# Altium schematic symbol library LimeMicroAltiumLib_schLib.SchLib: 162 symbols (part 4 of 7)
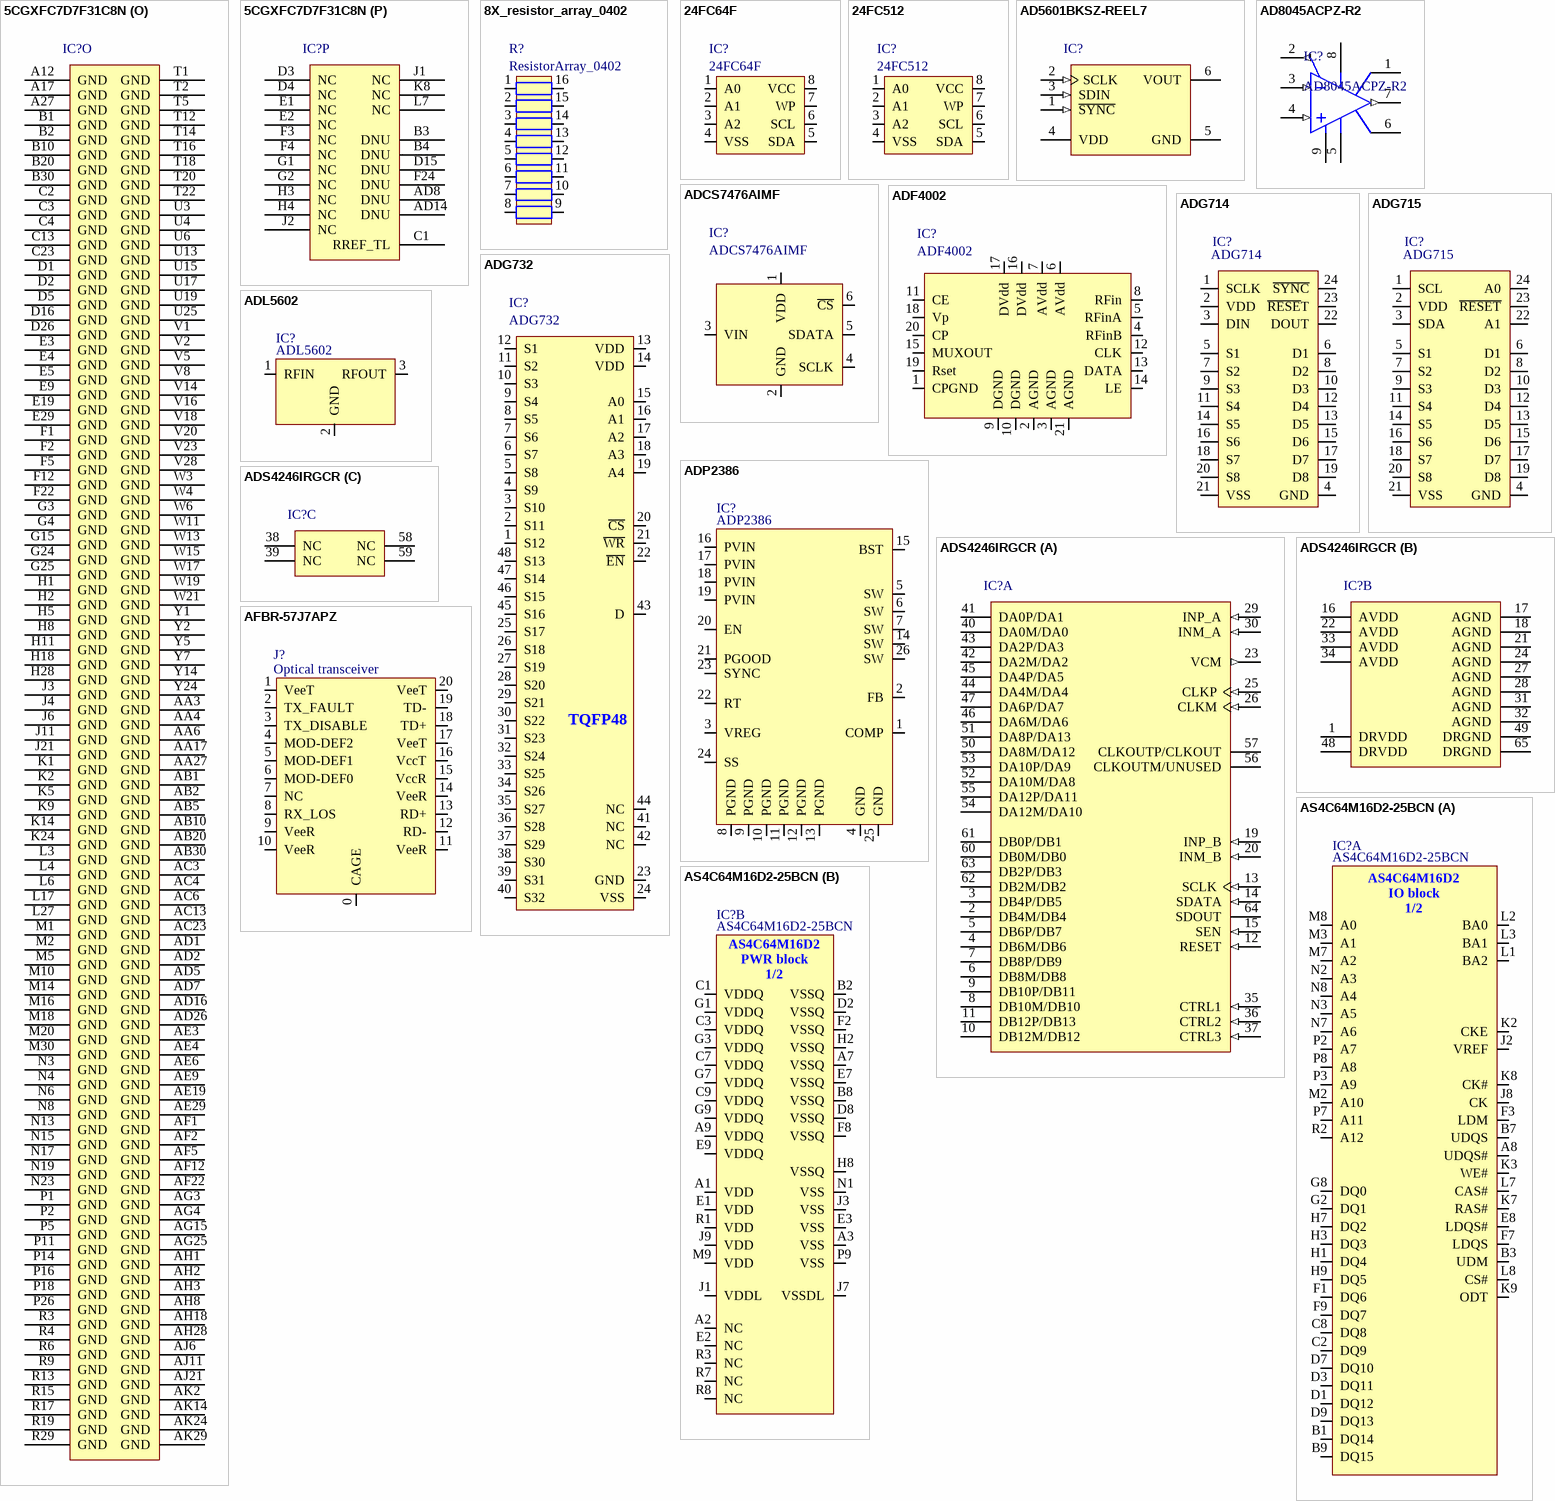
[diagram p34: symbols 5CGXFC7D7F31C8N to AS4C64M16D2-25BCN]

## 5CGXFC7D7F31C8N
designator IC?
Cyclone V GX Family FPGA, 1.07 to 1.13 V Supply, 480 I/O Pins, 7 PLLs, 896-Pin FBGA, Speed Grade 8, Commercial Grade, RoHS Compliant; Manufacturer: Altera; Device Group: 5CGXFC7; GPIO: 480; Logic Elements (LE) (K): 149.5; Speed Grade: 8; NexusDeviceID: 5CGXFC7D7F31C8N; DatasheetVersion: Rev. 3.4; PackageVersion: Rev. 2.0, 12/2012; PackageReference: FBGA896_A-200; PackageDescription: 896-Pin FineLine Ball-Grid Array (FBGA), Body 31 x 31 mm, Pitch 1 mm; Supplier 1: Digi-Key; Supplier Part Number 1: 544-2772-ND; Supplier 2: Mouser; Supplier Part Number 2: 989-5CGXFC7D7F31C8N; RoHS: RoHS Compliant; Subcategory: Cyclone V GX; Voltage Supply: 1.07 to 1.13 V; Mounting Technology: Surface Mount; Code_JEDEC: MS-034-AAN-1; PartNumber: 5CGXFC7D7F31C8N; ComponentLink1Description: Manufacturer URL; ComponentLink1URL: http://www.altera.com; ComponentLink2Description: Datasheet; ComponentLink2URL: http://www.altera.com/literature/hb/cyclone-v/cv_51002.pdf; ComponentLink3Description: Package Specification; ComponentLink3URL: http://www.altera.com/devicepackaging/04R00435-01.pdf; ComponentLink4Description: Device Handbook URL; ComponentLink4URL: http://www.altera.com/literature/hb/cyclone-v/cyclone5_handbook.pdf; ComponentLink5Description: Device Pin-Out URL; ComponentLink5URL: http://www.altera.com/literature/dp/cyclone-v/5CGXFC7.xls; ComponentLink6Description: Device Overview URL; ComponentLink6URL: http://www.altera.com/literature/hb/cyclone-v/cv_51001.pdf; ComponentLink7Description: Product URL; ComponentLink7URL: http://www.buyaltera.com/scripts/partsearch.dll?Detail&name=5CGXFC7D7F31C8N-ND
footprint ALTR-FBGA484_A-200 (BGA, 484-Balls, Body 23x23mm, Pitch 1mm)
part A pins: AA8 IO, (DIFFIO_TX_B13p, DIFFOUT_B13p, DQ2B) (io), AA9 IO, (DIFFIO_TX_B9p, DIFFOUT_B9p, DQ2B) (io), AA10 IO, DATA5, (DIFFIO_TX_B2n, DIFFOUT_B2n) (io), AA11 IO, DATA12, (DIFFIO_RX_B3p, DIFFOUT_B3p, DQS1B) (io), AB8 IO, (DIFFIO_TX_B13n, DIFFOUT_B13n, DQ2B) (io), AB9 IO, (DIFFIO_TX_B9n, DIFFOUT_B9n) (io), AC9 IO, DATA11, (DIFFIO_TX_B4p, DIFFOUT_B4p) (io), AD9 IO, DATA9, (DIFFIO_TX_B4n, DIFFOUT_B4n, DQ1B) (io), AF6 IO, PR_READY, (DIFFIO_TX_B8n, DIFFOUT_B8n, DQ1B) (io), AF7 IO, (DIFFIO_TX_B8p, DIFFOUT_B8p, DQ1B) (io), AF8 IO, (DIFFIO_TX_B12p, DIFFOUT_B12p) (io), AG6 IO, (DIFFIO_RX_B10p, DIFFOUT_B10p, DQ2B) (io), AG7 IO, (DIFFIO_TX_B16p, DIFFOUT_B16p, DQ2B) (io), AG8 IO, (DIFFIO_TX_B12n, DIFFOUT_B12n, DQ2B) (io), AH4 IO, (DIFFIO_RX_B14p, DIFFOUT_B14p, DQ2B) (io), AH5 IO, (DIFFIO_RX_B14n, DIFFOUT_B14n, DQ2B) (io), AH6 IO, (DIFFIO_RX_B10n, DIFFOUT_B10n, DQ2B) (io), AH7 IO, (DIFFIO_TX_B16n, DIFFOUT_B16n, DQ2B) (io), R10 IO, DATA14, (DIFFIO_RX_B5n, DIFFOUT_B5n, DQ1B) (io), T9 IO, (DIFFIO_RX_B11p, DIFFOUT_B11p, DQS2B) (io), T10 IO, (DIFFIO_RX_B15p, DIFFOUT_B15p) (io), T11 IO, CLKUSR, (DIFFIO_RX_B5p, DIFFOUT_B5p, DQ1B) (io), U8 IO, (DIFFIO_RX_B11n, DIFFOUT_B11n, DQSn2B) (io), U9 IO, (DIFFIO_RX_B15n, DIFFOUT_B15n) (io), U11 IO, DATA8, (DIFFIO_RX_B1p, DIFFOUT_B1p, DQ1B) (io), U12 IO, DATA6, (DIFFIO_RX_B1n, DIFFOUT_B1n, DQ1B) (io), V9 IO, DATA15, (DIFFIO_TX_B6p, DIFFOUT_B6p, DQ1B) (io), V10 IO, PR_DONE, (DIFFIO_RX_B7n, DIFFOUT_B7n) (io), V11 IO, PR_ERROR, (DIFFIO_RX_B7p, DIFFOUT_B7p) (io), W10 IO, DATA13, (DIFFIO_TX_B6n, DIFFOUT_B6n, DQ1B) (io), Y10 IO, DATA7, (DIFFIO_TX_B2p, DIFFOUT_B2p, DQ1B) (io), Y11 IO, DATA10, (DIFFIO_RX_B3n, DIFFOUT_B3n, DQSn1B) (io)
part B pins: AA13 IO, (DIFFIO_RX_B27n, DIFFOUT_B27n, DQSn4B, DQSn1B, B_CS#_1, B_CS#_1) (io), AA14 IO, (DIFFIO_RX_B35n, DIFFOUT_B35n, DQSn5B, _, B_CK#, B_CK#) (io), AA15 IO, CLK1n, (DIFFIO_RX_B39n, DIFFOUT_B39n) (io), AB12 IO, (DIFFIO_RX_B23p, DIFFOUT_B23p) (io), AB13 IO, (DIFFIO_RX_B23n, DIFFOUT_B23n) (io), AB14 IO, CLK0p, FPLL_BL_FBp, (DIFFIO_RX_B31p, DIFFOUT_B31p) (io), AC14 IO, CLK0n, FPLL_BL_FBn, (DIFFIO_RX_B31n, DIFFOUT_B31n) (io), AD12 IO, (DIFFIO_RX_B18p, DIFFOUT_B18p, DQ3B, DQ1B) (io), AD13 IO, (DIFFIO_RX_B18n, DIFFOUT_B18n, DQ3B, DQ1B) (io), AE10 IO, (DIFFIO_TX_B17p, DIFFOUT_B17p, DQ3B, DQ1B) (io), AE12 IO, (DIFFIO_RX_B22p, DIFFOUT_B22p, DQ3B, DQ1B) (io), AE13 IO, (DIFFIO_RX_B22n, DIFFOUT_B22n, DQ3B, DQ1B) (io), AF9 IO, (DIFFIO_TX_B32p, DIFFOUT_B32p, DQ4B, DQ1B, B_CAS#) (io), AF10 IO, (DIFFIO_TX_B17n, DIFFOUT_B17n) (io), AF11 IO, (DIFFIO_RX_B30p, DIFFOUT_B30p, DQ4B, DQ1B, B_A_8, B_CA_8) (io), AF13 IO, (DIFFIO_RX_B26p, DIFFOUT_B26p, DQ4B, DQ1B, B_A_14) (io), AG9 IO, (DIFFIO_TX_B32n, DIFFOUT_B32n, DQ4B, DQ1B, B_RAS#) (io), AG11 IO, (DIFFIO_RX_B30n, DIFFOUT_B30n, DQ4B, DQ1B, B_A_9, B_CA_9) (io), AG12 IO, (DIFFIO_RX_B26n, DIFFOUT_B26n, DQ4B, DQ1B, B_A_15) (io), AG13 IO, (DIFFIO_RX_B38p, DIFFOUT_B38p, DQ5B, _, B_A_4, B_CA_4) (io), AG14 IO, (DIFFIO_RX_B38n, DIFFOUT_B38n, DQ5B, _, B_A_5, B_CA_5) (io), AH9 IO, (DIFFIO_TX_B33p, DIFFOUT_B33p, DQ5B, _, B_BA_0) (io), AH10 IO, (DIFFIO_RX_B34p, DIFFOUT_B34p, DQ5B, _, B_BA_1) (io), AH11 IO, FPLL_BL_CLKOUT0, FPLL_BL_CLKOUTp, FPLL_BL_FB, (DIFFIO_TX_B37p, DIFFOUT_B37p, DQ5B, _, B_A_2, B_CA_2) (io), AH12 IO, FPLL_BL_CLKOUT1, FPLL_BL_CLKOUTn, (DIFFIO_TX_B37n, DIFFOUT_B37n, DQ5B, _, B_A_3, B_CA_3) (io), AJ1 IO, (DIFFIO_TX_B20p, DIFFOUT_B20p) (io), AJ2 IO, (DIFFIO_TX_B20n, DIFFOUT_B20n, DQ3B, DQ1B) (io), AJ3 IO, (DIFFIO_TX_B21p, DIFFOUT_B21p, DQ3B, DQ1B) (io), AJ4 IO, (DIFFIO_TX_B24p, DIFFOUT_B24p, DQ3B, DQ1B) (io), AJ5 IO, (DIFFIO_TX_B24n, DIFFOUT_B24n, DQ3B, DQ1B) (io), AJ7 IO, (DIFFIO_TX_B28p, DIFFOUT_B28p, _, _, B_A_12) (io), AJ8 IO, (DIFFIO_TX_B29p, DIFFOUT_B29p, DQ4B, DQ1B, B_A_10) (io), AJ9 IO, (DIFFIO_TX_B33n, DIFFOUT_B33n, _, _, GND, GND) (io), AJ10 IO, (DIFFIO_RX_B34n, DIFFOUT_B34n, DQ5B, _, B_BA_2) (io), AJ12 IO, (DIFFIO_TX_B40p, DIFFOUT_B40p, DQ5B, _, B_A_0, B_CA_0) (io), AK3 IO, (DIFFIO_TX_B21n, DIFFOUT_B21n, DQ3B, DQ1B) (io), AK5 IO, (DIFFIO_TX_B25p, DIFFOUT_B25p, DQ4B, DQ1B, B_WE#) (io), AK6 IO, (DIFFIO_TX_B25n, DIFFOUT_B25n, _, _, GND, GND) (io), AK7 IO, (DIFFIO_TX_B28n, DIFFOUT_B28n, DQ4B, DQ1B, B_A_13) (io), AK8 IO, (DIFFIO_TX_B29n, DIFFOUT_B29n, DQ4B, DQ1B, B_A_11) (io), AK10 IO, (DIFFIO_TX_B36p, DIFFOUT_B36p, _, _, B_A_6, B_CA_6) (io), AK11 IO, (DIFFIO_TX_B36n, DIFFOUT_B36n, DQ5B, _, B_A_7, B_CA_7) (io), AK12 IO, (DIFFIO_TX_B40n, DIFFOUT_B40n, DQ5B, _, B_A_1, B_CA_1) (io), V12 IO, (DIFFIO_RX_B19p, DIFFOUT_B19p, DQS3B, DQ1B) (io), W12 IO, (DIFFIO_RX_B19n, DIFFOUT_B19n, DQSn3B, DQ1B) (io), Y12 IO, (DIFFIO_RX_B27p, DIFFOUT_B27p, DQS4B, DQS1B, B_CS#_0, B_CS#_0) (io), Y13 IO, (DIFFIO_RX_B35p, DIFFOUT_B35p, DQS5B, _, B_CK, B_CK) (io), Y15 IO, CLK1p, (DIFFIO_RX_B39p, DIFFOUT_B39p) (io)
part C pins: AA16 IO, (DIFFIO_RX_B43n, DIFFOUT_B43n, DQSn6B, _, B_DQS#_0, B_DQS#_0) (io), AA18 IO, (DIFFIO_RX_B63p, DIFFOUT_B63p, _, _, GND, GND) (io), AA19 IO, (DIFFIO_RX_B63n, DIFFOUT_B63n, _, _, GND, GND) (io), AA20 IO, (DIFFIO_RX_B59n, DIFFOUT_B59n, DQSn8B, DQSn2B, B_DQS#_2, B_DQS#_2) (io), AA21 IO, (DIFFIO_RX_B71p, DIFFOUT_B71p, _, _, GND, GND) (io), AB16 IO, CLK2p, (DIFFIO_RX_B47p, DIFFOUT_B47p) (io), AB17 IO, CLK3p, (DIFFIO_RX_B55p, DIFFOUT_B55p) (io), AB18 IO, CLK3n, (DIFFIO_RX_B55n, DIFFOUT_B55n) (io), AB19 IO, (DIFFIO_RX_B67p, DIFFOUT_B67p, DQS9B, DQ3B, B_DQS_3, B_DQS_3) (io), AB21 IO, (DIFFIO_RX_B71n, DIFFOUT_B71n, _, _, GND, GND) (io), AB22 IO, (DIFFIO_RX_B79p, DIFFOUT_B79p, _, _, GND, GND) (io), AC15 IO, CLK2n, (DIFFIO_RX_B47n, DIFFOUT_B47n) (io), AC19 IO, (DIFFIO_RX_B67n, DIFFOUT_B67n, DQSn9B, DQ3B, B_DQS#_3, B_DQS#_3) (io), AC21 IO, (DIFFIO_RX_B75p, DIFFOUT_B75p, DQS10B, DQS3B, B_DQS_4, B_DQS_4) (io), AC22 IO, (DIFFIO_RX_B79n, DIFFOUT_B79n, _, _, GND, GND) (io), AD17 IO, (DIFFIO_RX_B46p, DIFFOUT_B46p, DQ6B, _, B_DQ_5, B_DQ_5) (io), AD18 IO, (DIFFIO_RX_B58p, DIFFOUT_B58p, DQ8B, DQ2B, B_DQ_17, B_DQ_17) (io), AD19 IO, (DIFFIO_RX_B70p, DIFFOUT_B70p, DQ9B, DQ3B, B_DQ_29, B_DQ_29) (io), AD20 IO, (DIFFIO_RX_B75n, DIFFOUT_B75n, DQSn10B, DQSn3B, B_DQS#_4, B_DQS#_4) (io), AE15 IO, (DIFFIO_TX_B48p, DIFFOUT_B48p, DQ6B, _, B_DM_0, B_DM_0) (io), AE16 IO, (DIFFIO_RX_B42p, DIFFOUT_B42p, DQ6B, _, B_DQ_1, B_DQ_1) (io), AE17 IO, (DIFFIO_RX_B46n, DIFFOUT_B46n, DQ6B, _, B_DQ_4, B_DQ_4) (io), AE18 IO, (DIFFIO_RX_B58n, DIFFOUT_B58n, DQ8B, DQ2B, B_DQ_16, B_DQ_16) (io), AE20 IO, (DIFFIO_RX_B70n, DIFFOUT_B70n, DQ9B, DQ3B, B_DQ_28, B_DQ_28) (io), AE22 IO, (DIFFIO_TX_B77p, DIFFOUT_B77p, DQ10B, DQ3B, B_DQ_38, B_DQ_38) (io), AF14 IO, (DIFFIO_TX_B48n, DIFFOUT_B48n, DQ6B, _, B_DQ_7, B_DQ_7) (io), AF15 IO, (DIFFIO_RX_B42n, DIFFOUT_B42n, DQ6B, _, B_DQ_0, B_DQ_0) (io), AF16 IO, (DIFFIO_RX_B54p, DIFFOUT_B54p, DQ7B, DQ2B, B_DQ_13, B_DQ_13) (io), AF18 IO, (DIFFIO_RX_B62p, DIFFOUT_B62p, DQ8B, DQ2B, B_DQ_21, B_DQ_21) (io), AF19 IO, (DIFFIO_RX_B62n, DIFFOUT_B62n, DQ8B, DQ2B, B_DQ_20, B_DQ_20) (io), AF20 IO, (DIFFIO_RX_B74p, DIFFOUT_B74p, DQ10B, DQ3B, B_DQ_33, B_DQ_33) (io), AF21 IO, (DIFFIO_RX_B78p, DIFFOUT_B78p, DQ10B, DQ3B, B_DQ_37, B_DQ_37) (io), AF23 IO, (DIFFIO_TX_B77n, DIFFOUT_B77n, DQ10B, DQ3B, GND, GND) (io), AG16 IO, (DIFFIO_RX_B54n, DIFFOUT_B54n, DQ7B, DQ2B, B_DQ_12, B_DQ_12) (io), AG17 IO, (DIFFIO_TX_B49p, DIFFOUT_B49p, DQ7B, DQ2B, B_DQ_10, B_DQ_10) (io), AG18 IO, (DIFFIO_RX_B66p, DIFFOUT_B66p, DQ9B, DQ3B, B_DQ_25, B_DQ_25) (io), AG19 IO, (DIFFIO_RX_B66n, DIFFOUT_B66n, DQ9B, DQ3B, B_DQ_24, B_DQ_24) (io), AG21 IO, (DIFFIO_RX_B74n, DIFFOUT_B74n, DQ10B, DQ3B, B_DQ_32, B_DQ_32) (io), AG22 IO, (DIFFIO_RX_B78n, DIFFOUT_B78n, DQ10B, DQ3B, B_DQ_36, B_DQ_36) (io), AG23 IO, (DIFFIO_TX_B80p, DIFFOUT_B80p, DQ10B, DQ3B, B_DM_4, B_DM_4) (io), AG24 IO, (DIFFIO_TX_B69p, DIFFOUT_B69p, DQ9B, DQ3B, B_DQ_30, B_DQ_30) (io), AG26 IO, (DIFFIO_TX_B76p, DIFFOUT_B76p, _, _, GND, GND) (io), AH14 IO, (DIFFIO_TX_B44p, DIFFOUT_B44p, _, _, B_ODT_0, B_ODT_0) (io), AH15 IO, (DIFFIO_TX_B44n, DIFFOUT_B44n, DQ6B, _, B_DQ_3, B_DQ_3) (io), AH17 IO, (DIFFIO_TX_B49n, DIFFOUT_B49n, _, _, GND, GND) (io), AH19 IO, (DIFFIO_TX_B56p, DIFFOUT_B56p, DQ7B, DQ2B, B_DM_1, B_DM_1) (io), AH20 IO, (DIFFIO_TX_B56n, DIFFOUT_B56n, DQ7B, DQ2B, B_DQ_15, B_DQ_15) (io), AH21 IO, (DIFFIO_TX_B61p, DIFFOUT_B61p, DQ8B, DQ2B, B_DQ_22, B_DQ_22) (io), AH22 IO, (DIFFIO_TX_B80n, DIFFOUT_B80n, DQ10B, DQ3B, B_DQ_39, B_DQ_39) (io), AH24 IO, (DIFFIO_TX_B65p, DIFFOUT_B65p, DQ9B, DQ3B, B_DQ_26, B_DQ_26) (io), AH25 IO, (DIFFIO_TX_B69n, DIFFOUT_B69n, DQ9B, DQ3B, GND, GND) (io), AH26 IO, (DIFFIO_TX_B76n, DIFFOUT_B76n, DQ10B, DQ3B, B_DQ_35, B_DQ_35) (io), AJ14 IO, (DIFFIO_TX_B41p, DIFFOUT_B41p, DQ6B, _, B_DQ_2, B_DQ_2) (io), AJ15 IO, (DIFFIO_TX_B45p, DIFFOUT_B45p, DQ6B, _, B_DQ_6, B_DQ_6) (io), AJ17 IO, (DIFFIO_TX_B52p, DIFFOUT_B52p, _, _, B_CKE_1, B_CKE_1) (io), AJ18 IO, (DIFFIO_TX_B52n, DIFFOUT_B52n, DQ7B, DQ2B, B_DQ_11, B_DQ_11) (io), AJ19 IO, (DIFFIO_TX_B53p, DIFFOUT_B53p, DQ7B, DQ2B, B_DQ_14, B_DQ_14) (io), AJ20 IO, (DIFFIO_TX_B57p, DIFFOUT_B57p, DQ8B, DQ2B, B_DQ_18, B_DQ_18) (io), AJ22 IO, (DIFFIO_TX_B61n, DIFFOUT_B61n, DQ8B, DQ2B, GND, GND) (io), AJ23 IO, (DIFFIO_TX_B64p, DIFFOUT_B64p, DQ8B, DQ2B, B_DM_2, B_DM_2) (io), AJ24 IO, (DIFFIO_TX_B65n, DIFFOUT_B65n, _, _, GND, GND) (io), AJ25 IO, (DIFFIO_TX_B68p, DIFFOUT_B68p, _, _, GND, GND) (io), AJ27 IO, (DIFFIO_TX_B72p, DIFFOUT_B72p, DQ9B, DQ3B, B_DM_3, B_DM_3) (io), AK13 IO, RZQ_0, (DIFFIO_TX_B41n, DIFFOUT_B41n) (io), AK15 IO, (DIFFIO_TX_B45n, DIFFOUT_B45n, DQ6B, _, B_ODT_1, B_ODT_1) (io), AK16 IO, (DIFFIO_RX_B50p, DIFFOUT_B50p, DQ7B, DQ2B, B_DQ_9, B_DQ_9) (io), AK17 IO, (DIFFIO_RX_B50n, DIFFOUT_B50n, DQ7B, DQ2B, B_DQ_8, B_DQ_8) (io), AK18 IO, (DIFFIO_TX_B53n, DIFFOUT_B53n, DQ7B, DQ2B, B_CKE_0, B_CKE_0) (io), AK20 IO, (DIFFIO_TX_B57n, DIFFOUT_B57n, _, _, GND, GND) (io), AK21 IO, (DIFFIO_TX_B60p, DIFFOUT_B60p, _, _, B_RESET#, B_RESET#) (io), AK22 IO, (DIFFIO_TX_B60n, DIFFOUT_B60n, DQ8B, DQ2B, B_DQ_19, B_DQ_19) (io), AK23 IO, (DIFFIO_TX_B64n, DIFFOUT_B64n, DQ8B, DQ2B, B_DQ_23, B_DQ_23) (io), AK25 IO, (DIFFIO_TX_B68n, DIFFOUT_B68n, DQ9B, DQ3B, B_DQ_27, B_DQ_27) (io), AK26 IO, (DIFFIO_TX_B72n, DIFFOUT_B72n, DQ9B, DQ3B, B_DQ_31, B_DQ_31) (io), AK27 IO, (DIFFIO_TX_B73p, DIFFOUT_B73p, DQ10B, DQ3B, B_DQ_34, B_DQ_34) (io), AK28 IO, (DIFFIO_TX_B73n, DIFFOUT_B73n, _, _, GND, GND) (io), Y16 IO, (DIFFIO_RX_B43p, DIFFOUT_B43p, DQS6B, _, B_DQS_0, B_DQS_0) (io), Y17 IO, (DIFFIO_RX_B51p, DIFFOUT_B51p, DQS7B, DQ2B, B_DQS_1, B_DQS_1) (io), Y18 IO, (DIFFIO_RX_B51n, DIFFOUT_B51n, DQSn7B, DQ2B, B_DQS#_1, B_DQS#_1) (io), Y20 IO, (DIFFIO_RX_B59p, DIFFOUT_B59p, DQS8B, DQS2B, B_DQS_2, B_DQS_2) (io)
part D pins: AA23 IO, (DIFFIO_RX_R8n, DIFFOUT_R8n, DQ1R) (io), AA24 IO, (DIFFIO_RX_R9p, DIFFOUT_R9p) (io), AA25 IO, (DIFFIO_RX_R9n, DIFFOUT_R9n) (io), AA26 IO, DEV_CLRn, (DIFFIO_TX_R5n, DIFFOUT_R5n, DQ1R) (io), AB26 IO, DEV_OE, (DIFFIO_TX_R5p, DIFFOUT_R5p) (io), AC24 IO, PR_REQUEST, (DIFFIO_TX_R1n, DIFFOUT_R1n, DQ1R) (io), AC26 IO, (DIFFIO_TX_R7p, DIFFOUT_R7p, DQ1R) (io), AC27 IO, (DIFFIO_TX_R7n, DIFFOUT_R7n) (io), AD23 IO, RZQ_1, (DIFFIO_TX_R1p, DIFFOUT_R1p, DQ1R) (io), AD24 IO, nCEO, (DIFFIO_TX_R3p, DIFFOUT_R3p, DQ1R) (io), AD25 IO, CvP_CONFDONE, (DIFFIO_TX_R3n, DIFFOUT_R3n, DQ1R) (io), AD27 IO, (DIFFIO_RX_R11n, DIFFOUT_R11n, DQ2R) (io), AE23 IO, (DIFFIO_TX_R10p, DIFFOUT_R10p, DQ2R) (io), AE25 IO, (DIFFIO_TX_R12p, DIFFOUT_R12p, DQ2R) (io), AE26 IO, (DIFFIO_TX_R12n, DIFFOUT_R12n, DQ2R) (io), AE27 IO, (DIFFIO_RX_R11p, DIFFOUT_R11p, DQ2R) (io), AF24 IO, (DIFFIO_TX_R10n, DIFFOUT_R10n, DQ2R) (io), AF25 IO, (DIFFIO_TX_R14p, DIFFOUT_R14p) (io), AF26 IO, (DIFFIO_TX_R14n, DIFFOUT_R14n, DQ2R) (io), AG27 IO, (DIFFIO_TX_R16n, DIFFOUT_R16n) (io), AH27 IO, (DIFFIO_TX_R16p, DIFFOUT_R16p, DQ2R) (io), V21 IO, (DIFFIO_RX_R13p, DIFFOUT_R13p, DQS2R) (io), V22 IO, (DIFFIO_RX_R13n, DIFFOUT_R13n, DQSn2R) (io), W22 IO, INIT_DONE, (DIFFIO_RX_R2p, DIFFOUT_R2p) (io), W24 IO, nPERSTL1, (DIFFIO_RX_R6n, DIFFOUT_R6n, DQSn1R) (io), W27 IO, (DIFFIO_RX_R15n, DIFFOUT_R15n, DQ2R) (io), Y21 IO, CRC_ERROR, (DIFFIO_RX_R2n, DIFFOUT_R2n) (io), Y22 IO, (DIFFIO_RX_R8p, DIFFOUT_R8p, DQ1R) (io), Y23 IO, nPERSTL0, (DIFFIO_RX_R6p, DIFFOUT_R6p, DQS1R) (io), Y25 IO, (DIFFIO_RX_R4p, DIFFOUT_R4p, DQ1R) (io), Y26 IO, (DIFFIO_RX_R4n, DIFFOUT_R4n, DQ1R) (io), Y27 IO, (DIFFIO_RX_R15p, DIFFOUT_R15p, DQ2R) (io)
part E pins: AA28 IO, (DIFFIO_RX_R19p, DIFFOUT_R19p, DQ3R, DQ1R) (io), AA29 IO, (DIFFIO_RX_R31p, DIFFOUT_R31p, DQ4R, DQ1R) (io), AA30 IO, (DIFFIO_RX_R31n, DIFFOUT_R31n, DQ4R, DQ1R) (io), AB27 IO, (DIFFIO_TX_R32p, DIFFOUT_R32p, DQ4R, DQ1R) (io), AB28 IO, (DIFFIO_TX_R32n, DIFFOUT_R32n) (io), AB29 IO, (DIFFIO_TX_R34p, DIFFOUT_R34p, DQ5R) (io), AC29 IO, (DIFFIO_TX_R30n, DIFFOUT_R30n, DQ4R, DQ1R) (io), AC30 IO, (DIFFIO_TX_R34n, DIFFOUT_R34n, DQ5R) (io), AD28 IO, (DIFFIO_TX_R28n, DIFFOUT_R28n, DQ4R, DQ1R) (io), AD29 IO, (DIFFIO_TX_R30p, DIFFOUT_R30p) (io), AD30 IO, (DIFFIO_RX_R23n, DIFFOUT_R23n, DQ3R, DQ1R) (io), AE28 IO, (DIFFIO_TX_R28p, DIFFOUT_R28p, DQ4R, DQ1R) (io), AE30 IO, (DIFFIO_RX_R23p, DIFFOUT_R23p, DQ3R, DQ1R) (io), AF28 IO, (DIFFIO_TX_R24n, DIFFOUT_R24n) (io), AF29 IO, (DIFFIO_TX_R26p, DIFFOUT_R26p, DQ4R, DQ1R) (io), AF30 IO, (DIFFIO_TX_R26n, DIFFOUT_R26n, DQ4R, DQ1R) (io), AG28 IO, (DIFFIO_TX_R24p, DIFFOUT_R24p, DQ3R, DQ1R) (io), AG29 IO, (DIFFIO_TX_R20n, DIFFOUT_R20n, DQ3R, DQ1R) (io), AH29 IO, (DIFFIO_TX_R20p, DIFFOUT_R20p, DQ3R, DQ1R) (io), AH30 IO, (DIFFIO_TX_R22n, DIFFOUT_R22n, DQ3R, DQ1R) (io), AJ28 IO, (DIFFIO_TX_R18p, DIFFOUT_R18p, DQ3R, DQ1R) (io), AJ29 IO, (DIFFIO_TX_R18n, DIFFOUT_R18n, DQ3R, DQ1R) (io), AJ30 IO, (DIFFIO_TX_R22p, DIFFOUT_R22p) (io), R26 IO, (DIFFIO_RX_R37n, DIFFOUT_R37n, DQSn5R) (io), R30 IO, (DIFFIO_RX_R39n, DIFFOUT_R39n, DQ5R) (io), T24 IO, CLK6n, (DIFFIO_RX_R33n, DIFFOUT_R33n) (io), T25 IO, (DIFFIO_RX_R37p, DIFFOUT_R37p, DQS5R) (io), T28 IO, (DIFFIO_RX_R35p, DIFFOUT_R35p, DQ5R) (io), T29 IO, (DIFFIO_RX_R35n, DIFFOUT_R35n, DQ5R) (io), T30 IO, (DIFFIO_RX_R39p, DIFFOUT_R39p, DQ5R) (io), U21 IO, CLK7p, FPLL_BR_FBp, (DIFFIO_RX_R25p, DIFFOUT_R25p) (io), U22 IO, CLK7n, FPLL_BR_FBn, (DIFFIO_RX_R25n, DIFFOUT_R25n) (io), U23 IO, CLK6p, (DIFFIO_RX_R33p, DIFFOUT_R33p) (io), U26 IO, (DIFFIO_RX_R21n, DIFFOUT_R21n, DQSn3R, DQSn1R) (io), U27 IO, (DIFFIO_RX_R29p, DIFFOUT_R29p, DQS4R, DQ1R) (io), U28 IO, (DIFFIO_RX_R29n, DIFFOUT_R29n, DQSn4R, DQ1R) (io), U29 IO, (DIFFIO_TX_R40p, DIFFOUT_R40p, DQ5R) (io), V24 IO, (DIFFIO_RX_R17p, DIFFOUT_R17p) (io), V25 IO, (DIFFIO_RX_R17n, DIFFOUT_R17n) (io), V26 IO, (DIFFIO_RX_R21p, DIFFOUT_R21p, DQS3R, DQS1R) (io), V27 IO, (DIFFIO_RX_R27p, DIFFOUT_R27p, DQ4R, DQ1R) (io), V29 IO, (DIFFIO_TX_R38p, DIFFOUT_R38p) (io), V30 IO, (DIFFIO_TX_R40n, DIFFOUT_R40n) (io), W28 IO, (DIFFIO_RX_R27n, DIFFOUT_R27n, DQ4R, DQ1R) (io), W29 IO, (DIFFIO_TX_R38n, DIFFOUT_R38n, DQ5R) (io), W30 IO, FPLL_BR_CLKOUT1, FPLL_BR_CLKOUTn, (DIFFIO_TX_R36n, DIFFOUT_R36n, DQ5R) (io), Y28 IO, (DIFFIO_RX_R19n, DIFFOUT_R19n, DQ3R, DQ1R) (io), Y30 IO, FPLL_BR_CLKOUT0, FPLL_BR_CLKOUTp, FPLL_BR_FB, (DIFFIO_TX_R36p, DIFFOUT_R36p, DQ5R) (io)
part F pins: A29 IO, (DIFFIO_TX_R74n, DIFFOUT_R74n, DQ10R, DQ3R) (io), B28 IO, (DIFFIO_TX_R74p, DIFFOUT_R74p, DQ10R, DQ3R) (io), B29 IO, (DIFFIO_TX_R72n, DIFFOUT_R72n) (io), C29 IO, (DIFFIO_TX_R72p, DIFFOUT_R72p, DQ9R, DQ3R) (io), C30 IO, (DIFFIO_TX_R68n, DIFFOUT_R68n, DQ9R, DQ3R) (io), D27 IO, (DIFFIO_TX_R78n, DIFFOUT_R78n, DQ10R, DQ3R) (io), D28 IO, (DIFFIO_TX_R76p, DIFFOUT_R76p, DQ10R, DQ3R) (io), D29 IO, (DIFFIO_TX_R76n, DIFFOUT_R76n, DQ10R, DQ3R) (io), D30 IO, (DIFFIO_TX_R68p, DIFFOUT_R68p, DQ9R, DQ3R) (io), E27 IO, (DIFFIO_TX_R78p, DIFFOUT_R78p) (io), E28 IO, (DIFFIO_TX_R70n, DIFFOUT_R70n, DQ9R, DQ3R) (io), E30 IO, (DIFFIO_TX_R64n, DIFFOUT_R64n) (io), F25 IO, (DIFFIO_RX_R63p, DIFFOUT_R63p, DQ8R, DQ2R) (io), F26 IO, (DIFFIO_RX_R63n, DIFFOUT_R63n, DQ8R, DQ2R) (io), F28 IO, (DIFFIO_TX_R70p, DIFFOUT_R70p) (io), F29 IO, (DIFFIO_TX_R66n, DIFFOUT_R66n, DQ9R, DQ3R) (io), F30 IO, (DIFFIO_TX_R64p, DIFFOUT_R64p, DQ8R, DQ2R) (io), G26 IO, (DIFFIO_TX_R62n, DIFFOUT_R62n, DQ8R, DQ2R) (io), G27 IO, (DIFFIO_TX_R56p, DIFFOUT_R56p, DQ7R, DQ2R) (io), G28 IO, (DIFFIO_TX_R56n, DIFFOUT_R56n) (io), G29 IO, (DIFFIO_TX_R66p, DIFFOUT_R66p, DQ9R, DQ3R) (io), H24 IO, (DIFFIO_TX_R80p, DIFFOUT_R80p, DQ10R, DQ3R) (io), H25 IO, (DIFFIO_RX_R75p, DIFFOUT_R75p, DQ10R, DQ3R) (io), H26 IO, (DIFFIO_RX_R75n, DIFFOUT_R75n, DQ10R, DQ3R) (io), H27 IO, (DIFFIO_TX_R62p, DIFFOUT_R62p) (io), H29 IO, (DIFFIO_TX_R60p, DIFFOUT_R60p, DQ8R, DQ2R) (io), H30 IO, (DIFFIO_TX_R60n, DIFFOUT_R60n, DQ8R, DQ2R) (io), J22 IO, (DIFFIO_RX_R79p, DIFFOUT_R79p, DQ10R, DQ3R) (io), J23 IO, (DIFFIO_RX_R79n, DIFFOUT_R79n, DQ10R, DQ3R) (io), J25 IO, (DIFFIO_TX_R80n, DIFFOUT_R80n) (io), J27 IO, (DIFFIO_RX_R59n, DIFFOUT_R59n, DQ8R, DQ2R) (io), J28 IO, (DIFFIO_TX_R58p, DIFFOUT_R58p, DQ8R, DQ2R) (io), J29 IO, (DIFFIO_TX_R58n, DIFFOUT_R58n, DQ8R, DQ2R) (io), J30 IO, (DIFFIO_TX_R54n, DIFFOUT_R54n, DQ7R, DQ2R) (io), K21 IO, (DIFFIO_RX_R71p, DIFFOUT_R71p, DQ9R, DQ3R) (io), K22 IO, (DIFFIO_RX_R71n, DIFFOUT_R71n, DQ9R, DQ3R) (io), K25 IO, (DIFFIO_TX_R50p, DIFFOUT_R50p, DQ7R, DQ2R) (io), K26 IO, (DIFFIO_TX_R50n, DIFFOUT_R50n, DQ7R, DQ2R) (io), K27 IO, (DIFFIO_RX_R59p, DIFFOUT_R59p, DQ8R, DQ2R) (io), K28 IO, (DIFFIO_TX_R46n, DIFFOUT_R46n, DQ6R) (io), K30 IO, (DIFFIO_TX_R54p, DIFFOUT_R54p) (io), L21 IO, (DIFFIO_RX_R73n, DIFFOUT_R73n) (io), L23 IO, (DIFFIO_RX_R67p, DIFFOUT_R67p, DQ9R, DQ3R) (io), L24 IO, (DIFFIO_RX_R67n, DIFFOUT_R67n, DQ9R, DQ3R) (io), L25 IO, (DIFFIO_RX_R55p, DIFFOUT_R55p, DQ7R, DQ2R) (io), L26 IO, (DIFFIO_RX_R55n, DIFFOUT_R55n, DQ7R, DQ2R) (io), L28 IO, (DIFFIO_TX_R46p, DIFFOUT_R46p) (io), L29 IO, (DIFFIO_TX_R52p, DIFFOUT_R52p, DQ7R, DQ2R) (io), L30 IO, (DIFFIO_TX_R52n, DIFFOUT_R52n, DQ7R, DQ2R) (io), M21 IO, (DIFFIO_RX_R73p, DIFFOUT_R73p) (io), M22 IO, (DIFFIO_RX_R69n, DIFFOUT_R69n, DQSn9R, DQSn3R) (io), M23 IO, (DIFFIO_RX_R61n, DIFFOUT_R61n, DQSn8R, DQ2R) (io), M27 IO, (DIFFIO_TX_R48p, DIFFOUT_R48p, DQ6R) (io), M28 IO, (DIFFIO_TX_R48n, DIFFOUT_R48n) (io), M29 IO, FPLL_TR_CLKOUT0, FPLL_TR_CLKOUTp, FPLL_TR_FB, (DIFFIO_TX_R44p, DIFFOUT_R44p, DQ6R) (io), N20 IO, (DIFFIO_RX_R77n, DIFFOUT_R77n, DQSn10R, DQ3R) (io), N21 IO, (DIFFIO_RX_R69p, DIFFOUT_R69p, DQS9R, DQS3R) (io), N22 IO, (DIFFIO_RX_R61p, DIFFOUT_R61p, DQS8R, DQ2R) (io), N24 IO, (DIFFIO_RX_R53p, DIFFOUT_R53p, DQS7R, DQS2R) (io), N25 IO, (DIFFIO_RX_R53n, DIFFOUT_R53n, DQSn7R, DQSn2R) (io), N26 IO, (DIFFIO_RX_R51p, DIFFOUT_R51p, DQ7R, DQ2R) (io), N27 IO, (DIFFIO_RX_R51n, DIFFOUT_R51n, DQ7R, DQ2R) (io), N29 IO, (DIFFIO_TX_R42n, DIFFOUT_R42n, DQ6R) (io), N30 IO, FPLL_TR_CLKOUT1, FPLL_TR_CLKOUTn, (DIFFIO_TX_R44n, DIFFOUT_R44n, DQ6R) (io), P20 IO, (DIFFIO_RX_R77p, DIFFOUT_R77p, DQS10R, DQ3R) (io), P22 IO, CLK4p, FPLL_TR_FBp, (DIFFIO_RX_R49p, DIFFOUT_R49p) (io), P23 IO, CLK4n, FPLL_TR_FBn, (DIFFIO_RX_R49n, DIFFOUT_R49n) (io), P25 IO, (DIFFIO_RX_R45p, DIFFOUT_R45p, DQS6R) (io), P28 IO, (DIFFIO_TX_R42p, DIFFOUT_R42p, DQ6R) (io), P29 IO, (DIFFIO_RX_R43p, DIFFOUT_R43p, DQ6R) (io), P30 IO, (DIFFIO_RX_R43n, DIFFOUT_R43n, DQ6R) (io), R20 IO, (DIFFIO_RX_R65p, DIFFOUT_R65p) (io), R21 IO, (DIFFIO_RX_R57p, DIFFOUT_R57p) (io), R22 IO, (DIFFIO_RX_R57n, DIFFOUT_R57n) (io), R23 IO, CLK5n, (DIFFIO_RX_R41n, DIFFOUT_R41n) (io), R25 IO, (DIFFIO_RX_R45n, DIFFOUT_R45n, DQSn6R) (io), R27 IO, (DIFFIO_RX_R47p, DIFFOUT_R47p, DQ6R) (io), R28 IO, (DIFFIO_RX_R47n, DIFFOUT_R47n, DQ6R) (io), T21 IO, (DIFFIO_RX_R65n, DIFFOUT_R65n) (io), T23 IO, CLK5p, (DIFFIO_RX_R41p, DIFFOUT_R41p) (io)
part G pins: A13 IO, (DIFFIO_TX_T38n, DIFFOUT_T38n, DQ5T, _, T_DQ_3, T_DQ_3) (io), A14 IO, (DIFFIO_TX_T34n, DIFFOUT_T34n, DQ5T, _, T_DQ_7, T_DQ_7) (io), A15 IO, (DIFFIO_TX_T32n, DIFFOUT_T32n, _, _, GND, GND) (io), A16 IO, (DIFFIO_TX_T32p, DIFFOUT_T32p, DQ4T, DQ2T, T_DQ_10, T_DQ_10) (io), A18 IO, (DIFFIO_TX_T28n, DIFFOUT_T28n, DQ4T, DQ2T, T_CKE_0, T_CKE_0) (io), A19 IO, (DIFFIO_TX_T26n, DIFFOUT_T26n, DQ4T, DQ2T, T_DQ_15, T_DQ_15) (io), A20 IO, (DIFFIO_TX_T24n, DIFFOUT_T24n, _, _, GND, GND) (io), A21 IO, (DIFFIO_TX_T24p, DIFFOUT_T24p, DQ3T, DQ2T, T_DQ_18, T_DQ_18) (io), A23 IO, (DIFFIO_TX_T20n, DIFFOUT_T20n, DQ3T, DQ2T, GND, GND) (io), A24 IO, (DIFFIO_TX_T16n, DIFFOUT_T16n, _, _, GND, GND) (io), A25 IO, (DIFFIO_TX_T16p, DIFFOUT_T16p, DQ2T, DQ1T, T_DQ_26, T_DQ_26) (io), A26 IO, (DIFFIO_TX_T8n, DIFFOUT_T8n, _, _, GND, GND) (io), A28 IO, (DIFFIO_TX_T6n, DIFFOUT_T6n, DQ1T, DQ1T, T_DQ_35, T_DQ_35) (io), B12 IO, RZQ_2, (DIFFIO_TX_T40n, DIFFOUT_T40n) (io), B13 IO, (DIFFIO_TX_T38p, DIFFOUT_T38p, _, _, T_ODT_0, T_ODT_0) (io), B14 IO, (DIFFIO_TX_T34p, DIFFOUT_T34p, DQ5T, _, T_DM_0, T_DM_0) (io), B17 IO, (DIFFIO_RX_T31n, DIFFOUT_T31n, DQ4T, DQ2T, T_DQ_8, T_DQ_8) (io), B18 IO, (DIFFIO_TX_T28p, DIFFOUT_T28p, DQ4T, DQ2T, T_DQ_14, T_DQ_14) (io), B19 IO, (DIFFIO_TX_T26p, DIFFOUT_T26p, DQ4T, DQ2T, T_DM_1, T_DM_1) (io), B21 IO, (DIFFIO_TX_T22n, DIFFOUT_T22n, DQ3T, DQ2T, T_DQ_19, T_DQ_19) (io), B22 IO, (DIFFIO_TX_T22p, DIFFOUT_T22p, _, _, T_RESET#, T_RESET#) (io), B23 IO, (DIFFIO_TX_T20p, DIFFOUT_T20p, DQ3T, DQ2T, T_DQ_22, T_DQ_22) (io), B24 IO, (DIFFIO_TX_T18n, DIFFOUT_T18n, DQ3T, DQ2T, T_DQ_23, T_DQ_23) (io), B26 IO, (DIFFIO_TX_T8p, DIFFOUT_T8p, DQ1T, DQ1T, T_DQ_34, T_DQ_34) (io), B27 IO, (DIFFIO_TX_T6p, DIFFOUT_T6p, _, _, GND, GND) (io), C11 IO, (DIFFIO_TX_T40p, DIFFOUT_T40p, DQ5T, _, T_DQ_2, T_DQ_2) (io), C12 IO, (DIFFIO_TX_T36n, DIFFOUT_T36n, DQ5T, _, T_ODT_1, T_ODT_1) (io), C14 IO, (DIFFIO_TX_T30n, DIFFOUT_T30n, DQ4T, DQ2T, T_DQ_11, T_DQ_11) (io), C15 IO, (DIFFIO_RX_T39n, DIFFOUT_T39n, DQ5T, _, T_DQ_0, T_DQ_0) (io), C16 IO, (DIFFIO_RX_T39p, DIFFOUT_T39p, DQ5T, _, T_DQ_1, T_DQ_1) (io), C17 IO, (DIFFIO_RX_T31p, DIFFOUT_T31p, DQ4T, DQ2T, T_DQ_9, T_DQ_9) (io), C19 IO, (DIFFIO_RX_T15n, DIFFOUT_T15n, DQ2T, DQ1T, T_DQ_24, T_DQ_24) (io), C20 IO, (DIFFIO_RX_T11n, DIFFOUT_T11n, DQ2T, DQ1T, T_DQ_28, T_DQ_28) (io), C21 IO, (DIFFIO_RX_T11p, DIFFOUT_T11p, DQ2T, DQ1T, T_DQ_29, T_DQ_29) (io), C22 IO, (DIFFIO_TX_T12n, DIFFOUT_T12n, DQ2T, DQ1T, GND, GND) (io), C24 IO, (DIFFIO_TX_T18p, DIFFOUT_T18p, DQ3T, DQ2T, T_DM_2, T_DM_2) (io), C25 IO, (DIFFIO_TX_T10n, DIFFOUT_T10n, DQ2T, DQ1T, T_DQ_31, T_DQ_31) (io), C26 IO, (DIFFIO_TX_T4n, DIFFOUT_T4n, DQ1T, DQ1T, GND, GND) (io), C27 IO, (DIFFIO_TX_T4p, DIFFOUT_T4p, DQ1T, DQ1T, T_DQ_38, T_DQ_38) (io), D12 IO, (DIFFIO_TX_T36p, DIFFOUT_T36p, DQ5T, _, T_DQ_6, T_DQ_6) (io), D14 IO, (DIFFIO_TX_T30p, DIFFOUT_T30p, _, _, T_CKE_1, T_CKE_1) (io), D17 IO, (DIFFIO_RX_T35n, DIFFOUT_T35n, DQ5T, _, T_DQ_4, T_DQ_4) (io), D18 IO, (DIFFIO_RX_T23n, DIFFOUT_T23n, DQ3T, DQ2T, T_DQ_16, T_DQ_16) (io), D19 IO, (DIFFIO_RX_T23p, DIFFOUT_T23p, DQ3T, DQ2T, T_DQ_17, T_DQ_17) (io), D20 IO, (DIFFIO_RX_T15p, DIFFOUT_T15p, DQ2T, DQ1T, T_DQ_25, T_DQ_25) (io), D22 IO, (DIFFIO_TX_T14n, DIFFOUT_T14n, DQ2T, DQ1T, T_DQ_27, T_DQ_27) (io), D23 IO, (DIFFIO_TX_T12p, DIFFOUT_T12p, DQ2T, DQ1T, T_DQ_30, T_DQ_30) (io), D25 IO, (DIFFIO_TX_T10p, DIFFOUT_T10p, DQ2T, DQ1T, T_DM_3, T_DM_3) (io), E17 IO, (DIFFIO_RX_T35p, DIFFOUT_T35p, DQ5T, _, T_DQ_5, T_DQ_5) (io), E18 IO, (DIFFIO_RX_T19n, DIFFOUT_T19n, DQ3T, DQ2T, T_DQ_20, T_DQ_20) (io), E20 IO, (DIFFIO_RX_T17n, DIFFOUT_T17n, _, _, GND, GND) (io), E21 IO, (DIFFIO_RX_T7n, DIFFOUT_T7n, DQ1T, DQ1T, T_DQ_32, T_DQ_32) (io), E22 IO, (DIFFIO_RX_T7p, DIFFOUT_T7p, DQ1T, DQ1T, T_DQ_33, T_DQ_33) (io), E23 IO, (DIFFIO_TX_T14p, DIFFOUT_T14p, _, _, GND, GND) (io), E25 IO, (DIFFIO_TX_T2n, DIFFOUT_T2n, DQ1T, DQ1T, T_DQ_39, T_DQ_39) (io), E26 IO, (DIFFIO_TX_T2p, DIFFOUT_T2p, DQ1T, DQ1T, T_DM_4, T_DM_4) (io), F18 IO, (DIFFIO_RX_T27n, DIFFOUT_T27n, DQ4T, DQ2T, T_DQ_12, T_DQ_12) (io), F19 IO, (DIFFIO_RX_T19p, DIFFOUT_T19p, DQ3T, DQ2T, T_DQ_21, T_DQ_21) (io), F20 IO, (DIFFIO_RX_T17p, DIFFOUT_T17p, _, _, GND, GND) (io), G17 IO, CLK10n, (DIFFIO_RX_T33n, DIFFOUT_T33n) (io), G18 IO, (DIFFIO_RX_T27p, DIFFOUT_T27p, DQ4T, DQ2T, T_DQ_13, T_DQ_13) (io), G21 IO, (DIFFIO_RX_T1n, DIFFOUT_T1n, _, _, GND, GND) (io), G22 IO, (DIFFIO_RX_T3p, DIFFOUT_T3p, DQ1T, DQ1T, T_DQ_37, T_DQ_37) (io), G23 IO, (DIFFIO_RX_T3n, DIFFOUT_T3n, DQ1T, DQ1T, T_DQ_36, T_DQ_36) (io), H17 IO, CLK10p, (DIFFIO_RX_T33p, DIFFOUT_T33p) (io), H19 IO, CLK11p, (DIFFIO_RX_T25p, DIFFOUT_T25p) (io), H20 IO, (DIFFIO_RX_T9n, DIFFOUT_T9n, _, _, GND, GND) (io), H21 IO, (DIFFIO_RX_T1p, DIFFOUT_T1p, _, _, GND, GND) (io), J17 IO, (DIFFIO_RX_T37n, DIFFOUT_T37n, DQSn5T, _, T_DQS#_0, T_DQS#_0) (io), J18 IO, CLK11n, (DIFFIO_RX_T25n, DIFFOUT_T25n) (io), J19 IO, (DIFFIO_RX_T13n, DIFFOUT_T13n, DQSn2T, DQ1T, T_DQS#_3, T_DQS#_3) (io), J20 IO, (DIFFIO_RX_T9p, DIFFOUT_T9p, _, _, GND, GND) (io), K16 IO, (DIFFIO_RX_T29p, DIFFOUT_T29p, DQS4T, DQ2T, T_DQS_1, T_DQS_1) (io), K17 IO, (DIFFIO_RX_T37p, DIFFOUT_T37p, DQS5T, _, T_DQS_0, T_DQS_0) (io), K18 IO, (DIFFIO_RX_T21n, DIFFOUT_T21n, DQSn3T, DQSn2T, T_DQS#_2, T_DQS#_2) (io), K20 IO, (DIFFIO_RX_T13p, DIFFOUT_T13p, DQS2T, DQ1T, T_DQS_3, T_DQS_3) (io), L16 IO, (DIFFIO_RX_T29n, DIFFOUT_T29n, DQSn4T, DQ2T, T_DQS#_1, T_DQS#_1) (io), L18 IO, (DIFFIO_RX_T21p, DIFFOUT_T21p, DQS3T, DQS2T, T_DQS_2, T_DQS_2) (io), L19 IO, (DIFFIO_RX_T5n, DIFFOUT_T5n, DQSn1T, DQSn1T, T_DQS#_4, T_DQS#_4) (io), L20 IO, (DIFFIO_RX_T5p, DIFFOUT_T5p, DQS1T, DQS1T, T_DQS_4, T_DQS_4) (io)
part H pins: A2 IO, (DIFFIO_TX_T70n, DIFFOUT_T70n, DQ9T, DQ3T) (io), A3 IO, (DIFFIO_TX_T70p, DIFFOUT_T70p) (io), A4 IO, (DIFFIO_TX_T60n, DIFFOUT_T60n, DQ8T) (io), A5 IO, (DIFFIO_TX_T60p, DIFFOUT_T60p, DQ8T) (io), A6 IO, (DIFFIO_TX_T54n, DIFFOUT_T54n, DQ7T, _, T_A_13) (io), A8 IO, (DIFFIO_TX_T52n, DIFFOUT_T52n, DQ7T, _, T_A_11) (io), A9 IO, (DIFFIO_TX_T48n, DIFFOUT_T48n, _, _, GND, GND) (io), A10 IO, (DIFFIO_TX_T48p, DIFFOUT_T48p, DQ6T, _, T_BA_0) (io), A11 IO, (DIFFIO_TX_T42n, DIFFOUT_T42n, DQ6T, _, T_A_1, T_CA_1) (io), B6 IO, (DIFFIO_TX_T54p, DIFFOUT_T54p, _, _, T_A_12) (io), B7 IO, (DIFFIO_TX_T52p, DIFFOUT_T52p, DQ7T, _, T_A_10) (io), B8 IO, (DIFFIO_TX_T50n, DIFFOUT_T50n, DQ7T, _, T_RAS#) (io), B11 IO, (DIFFIO_TX_T42p, DIFFOUT_T42p, DQ6T, _, T_A_0, T_CA_0) (io), C6 IO, (DIFFIO_TX_T56n, DIFFOUT_T56n, _, _, GND, GND) (io), C7 IO, (DIFFIO_TX_T56p, DIFFOUT_T56p, DQ7T, _, T_WE#) (io), C9 IO, (DIFFIO_TX_T50p, DIFFOUT_T50p, DQ7T, _, T_CAS#) (io), C10 IO, (DIFFIO_TX_T46n, DIFFOUT_T46n, DQ6T, _, T_A_7, T_CA_7) (io), D6 IO, (DIFFIO_TX_T72n, DIFFOUT_T72n) (io), D7 IO, (DIFFIO_TX_T72p, DIFFOUT_T72p, DQ9T, DQ3T) (io), D8 IO, (DIFFIO_TX_T68n, DIFFOUT_T68n, DQ9T, DQ3T) (io), D9 IO, (DIFFIO_TX_T46p, DIFFOUT_T46p, _, _, T_A_6, T_CA_6) (io), D10 IO, (DIFFIO_RX_T55n, DIFFOUT_T55n, DQ7T, _, T_A_15) (io), D13 IO, (DIFFIO_RX_T51n, DIFFOUT_T51n, DQ7T, _, T_A_9, T_CA_9) (io), E6 IO, (DIFFIO_TX_T74n, DIFFOUT_T74n, DQ10T, DQ3T) (io), E7 IO, (DIFFIO_TX_T74p, DIFFOUT_T74p, DQ10T, DQ3T) (io), E8 IO, (DIFFIO_TX_T68p, DIFFOUT_T68p, DQ9T, DQ3T) (io), E10 IO, FPLL_TL_CLKOUT1, FPLL_TL_CLKOUTn, (DIFFIO_TX_T44n, DIFFOUT_T44n, DQ6T, _, T_A_3, T_CA_3) (io), E11 IO, (DIFFIO_RX_T55p, DIFFOUT_T55p, DQ7T, _, T_A_14) (io), E12 IO, (DIFFIO_RX_T51p, DIFFOUT_T51p, DQ7T, _, T_A_8, T_CA_8) (io), E13 IO, (DIFFIO_TX_T58n, DIFFOUT_T58n, DQ8T) (io), E15 IO, (DIFFIO_RX_T47n, DIFFOUT_T47n, DQ6T, _, T_BA_2) (io), E16 IO, (DIFFIO_RX_T43n, DIFFOUT_T43n, DQ6T, _, T_A_5, T_CA_5) (io), F6 IO, (DIFFIO_TX_T78n, DIFFOUT_T78n, DQ10T, DQ3T) (io), F8 IO, (DIFFIO_TX_T66n, DIFFOUT_T66n, DQ9T, DQ3T) (io), F9 IO, FPLL_TL_CLKOUT0, FPLL_TL_CLKOUTp, FPLL_TL_FB, (DIFFIO_TX_T44p, DIFFOUT_T44p, DQ6T, _, T_A_2, T_CA_2) (io), F13 IO, (DIFFIO_TX_T58p, DIFFOUT_T58p, DQ8T) (io), F14 IO, (DIFFIO_RX_T59n, DIFFOUT_T59n, DQ8T) (io), F15 IO, (DIFFIO_RX_T47p, DIFFOUT_T47p, DQ6T, _, T_BA_1) (io), F16 IO, (DIFFIO_RX_T43p, DIFFOUT_T43p, DQ6T, _, T_A_4, T_CA_4) (io), G6 IO, (DIFFIO_TX_T78p, DIFFOUT_T78p) (io), G7 IO, (DIFFIO_TX_T80n, DIFFOUT_T80n) (io), G8 IO, (DIFFIO_TX_T80p, DIFFOUT_T80p, DQ10T, DQ3T) (io), G9 IO, (DIFFIO_TX_T66p, DIFFOUT_T66p, DQ9T, DQ3T) (io), G12 IO, (DIFFIO_RX_T67n, DIFFOUT_T67n, DQ9T, DQ3T) (io), G14 IO, (DIFFIO_RX_T59p, DIFFOUT_T59p, DQ8T) (io), H7 IO, (DIFFIO_TX_T62n, DIFFOUT_T62n, DQ8T) (io), H9 IO, (DIFFIO_TX_T64n, DIFFOUT_T64n) (io), H12 IO, (DIFFIO_RX_T67p, DIFFOUT_T67p, DQ9T, DQ3T) (io), H14 IO, (DIFFIO_RX_T61n, DIFFOUT_T61n, DQSn8T) (io), H15 IO, (DIFFIO_RX_T53n, DIFFOUT_T53n, DQSn7T, _, T_CS#_1, T_CS#_1) (io), J7 IO, (DIFFIO_TX_T62p, DIFFOUT_T62p) (io), J9 IO, (DIFFIO_TX_T64p, DIFFOUT_T64p, DQ8T) (io), J10 IO, (DIFFIO_TX_T76n, DIFFOUT_T76n, DQ10T, DQ3T) (io), J12 IO, (DIFFIO_RX_T75n, DIFFOUT_T75n, DQ10T, DQ3T) (io), J13 IO, (DIFFIO_RX_T69n, DIFFOUT_T69n, DQSn9T, DQSn3T) (io), J14 IO, (DIFFIO_RX_T61p, DIFFOUT_T61p, DQS8T) (io), J15 IO, (DIFFIO_RX_T53p, DIFFOUT_T53p, DQS7T, _, T_CS#_0, T_CS#_0) (io), K10 IO, (DIFFIO_TX_T76p, DIFFOUT_T76p, DQ10T, DQ3T) (io), K11 IO, (DIFFIO_RX_T63n, DIFFOUT_T63n, DQ8T) (io), K12 IO, (DIFFIO_RX_T75p, DIFFOUT_T75p, DQ10T, DQ3T) (io), K13 IO, (DIFFIO_RX_T69p, DIFFOUT_T69p, DQS9T, DQS3T) (io), K15 IO, CLK9n, (DIFFIO_RX_T41n, DIFFOUT_T41n) (io), L9 IO, (DIFFIO_RX_T57n, DIFFOUT_T57n) (io), L10 IO, (DIFFIO_RX_T57p, DIFFOUT_T57p) (io), L11 IO, (DIFFIO_RX_T63p, DIFFOUT_T63p, DQ8T) (io), L13 IO, CLK8n, FPLL_TL_FBn, (DIFFIO_RX_T49n, DIFFOUT_T49n) (io), L14 IO, CLK8p, FPLL_TL_FBp, (DIFFIO_RX_T49p, DIFFOUT_T49p) (io), L15 IO, CLK9p, (DIFFIO_RX_T41p, DIFFOUT_T41p) (io), M8 IO, (DIFFIO_RX_T45n, DIFFOUT_T45n, DQSn6T, _, T_CK#, T_CK#) (io), M9 IO, (DIFFIO_RX_T45p, DIFFOUT_T45p, DQS6T, _, T_CK, T_CK) (io), M11 IO, (DIFFIO_RX_T79n, DIFFOUT_T79n, DQ10T, DQ3T) (io), M12 IO, (DIFFIO_RX_T79p, DIFFOUT_T79p, DQ10T, DQ3T) (io), N9 IO, (DIFFIO_RX_T77n, DIFFOUT_T77n, DQSn10T, DQ3T) (io), N10 IO, (DIFFIO_RX_T77p, DIFFOUT_T77p, DQS10T, DQ3T) (io), N11 IO, (DIFFIO_RX_T71n, DIFFOUT_T71n, DQ9T, DQ3T) (io), N12 IO, (DIFFIO_RX_T65n, DIFFOUT_T65n) (io), P10 IO, (DIFFIO_RX_T71p, DIFFOUT_T71p, DQ9T, DQ3T) (io), P12 IO, (DIFFIO_RX_T65p, DIFFOUT_T65p) (io), R11 IO, (DIFFIO_RX_T73n, DIFFOUT_T73n) (io), R12 IO, (DIFFIO_RX_T73p, DIFFOUT_T73p) (io)
part I pins: AB3 GXB_TX_L2n (out), AB4 GXB_TX_L2p (out), AC1 GXB_RX_L2n, GXB_REFCLK_L2n (in), AC2 GXB_RX_L2p, GXB_REFCLK_L2p (in), AD3 GXB_TX_L1n (out), AD4 GXB_TX_L1p (out), AE1 GXB_RX_L1n, GXB_REFCLK_L1n (in), AE2 GXB_RX_L1p, GXB_REFCLK_L1p (in), AF3 GXB_TX_L0n (out), AF4 GXB_TX_L0p (out), AG1 GXB_RX_L0n, GXB_REFCLK_L0n (in), AG2 GXB_RX_L0p, GXB_REFCLK_L0p (in), W7 REFCLK0Ln (in), W8 REFCLK0Lp (in)
part J pins: AA1 GXB_RX_L3n, GXB_REFCLK_L3n (in), AA2 GXB_RX_L3p, GXB_REFCLK_L3p (in), R7 REFCLK1Ln (in), R8 REFCLK1Lp (in), T3 GXB_TX_L5n (out), T4 GXB_TX_L5p (out), U1 GXB_RX_L5n, GXB_REFCLK_L5n (in), U2 GXB_RX_L5p, GXB_REFCLK_L5p (in), V3 GXB_TX_L4n (out), V4 GXB_TX_L4p (out), W1 GXB_RX_L4n, GXB_REFCLK_L4n (in), W2 GXB_RX_L4p, GXB_REFCLK_L4p (in), Y3 GXB_TX_L3n (out), Y4 GXB_TX_L3p (out)
part K pins: K3 GXB_TX_L8n (out), K4 GXB_TX_L8p (out), L1 GXB_RX_L8n, GXB_REFCLK_L8n (in), L2 GXB_RX_L8p, GXB_REFCLK_L8p (in), M3 GXB_TX_L7n (out), M4 GXB_TX_L7p (out), N1 GXB_RX_L7n, GXB_REFCLK_L7n (in), N2 GXB_RX_L7p, GXB_REFCLK_L7p (in), N7 REFCLK2Ln (in), P3 GXB_TX_L6n (out), P4 GXB_TX_L6p (out), P8 REFCLK2Lp (in), R1 GXB_RX_L6n, GXB_REFCLK_L6n (in), R2 GXB_RX_L6p, GXB_REFCLK_L6p (in)
part L pins: AA7 nCSO, DATA4 (out), AB7 AS_DATA3, DATA3 (io), AC7 TCK (in), AE5 AS_DATA1, DATA1 (io), AE7 AS_DATA2, DATA2 (io), AG5 AS_DATA0, ASDO, DATA0 (io), C5 nCONFIG (in), G5 MSEL2 (in), H6 nCE (in), K7 nSTATUS (io), L8 CONF_DONE (io), M7 MSEL4 (in), P7 MSEL3 (in), P9 MSEL1 (in), T7 DCLK (io), T8 MSEL0 (in), U7 TDI (in), V7 TMS (in), W9 TDO (out)
part M pins: A7 VCCIO8A (power), A22 VCCIO7A (power), AA12 VCCIO3B (power), AA22 VCCIO5A (power), AB15 VCCIO4A (power), AB25 VCCIO5A (power), AC8 VCCIO3A (power), AC18 VCCIO4A (power), AC28 VCCIO5B (power), AD11 VCCIO3A (power), AD21 VCCIO4A (power), AE14 VCCIO3B (power), AE24 VCCIO5A (power), AF17 VCCIO4A (power), AF27 VCCIO5A (power), AG10 VCCIO3B (power), AG20 VCCIO4A (power), AG30 VCCIO5B (power), AH13 VCCIO3B (power), AH23 VCCIO4A (power), AJ16 VCCIO4A (power), AJ26 VCCIO4A (power), AK4 VCCIO3B (power), AK9 VCCIO3B (power), AK19 VCCIO4A (power), B5 VCCIO8A (power), B15 VCCIO7A (power), B25 VCCIO7A (power), C8 VCCIO8A (power), C18 VCCIO7A (power), C28 VCCIO6A (power), D11 VCCIO8A (power), D21 VCCIO7A (power), E14 VCCIO8A (power), E24 VCCIO7A (power), F7 VCCIO8A (power), F17 VCCIO7A (power), F27 VCCIO6A (power), G10 VCCIO8A (power), G20 VCCIO7A (power), G30 VCCIO6A (power), H13 VCCIO8A (power), H23 VCCIO7A (power), J16 VCCIO8A (power), J26 VCCIO6A (power), K19 VCCIO7A (power), K29 VCCIO6A (power), L12 VCCIO8A (power), L22 VCCIO6A (power), M13 VCC (power), M15 VCC (power), M17 VCC (power), M19 VCC (power), M25 VCCIO6A (power), N14 VCC (power), N16 VCC (power), N18 VCC (power), N28 VCCIO6A (power), P13 VCC (power), P15 VCC (power), P17 VCC (power), P19 VCC (power), P21 VCCIO6A (power), R14 VCC (power), R16 VCC (power), R18 VCC (power), R24 VCCIO6A (power), T13 VCC (power), T15 VCC (power), T17 VCC (power), T19 VCC (power), T27 VCCIO5B (power), U10 VCCIO3A (power), U14 VCC (power), U16 VCC (power), U18 VCC (power), U20 VCC (power), U30 VCCIO5B (power), V13 VCC (power), V15 VCC (power), V17 VCC (power), V19 VCC (power), W14 VCC (power), W16 VCC (power), W18 VCC (power), W20 VCC (power), W26 VCCIO5B (power), Y9 VCCIO3A (power), Y19 VCCIO4A (power), Y29 VCCIO5B (power)
part N pins: AA5 VCCE_GXBL (power), AB6 VCCH_GXBL (power), AB11 VCCPD3A (power), AB23 VCCA_FPLL (power), AB24 VCCPGM (power), AC5 VCCL_GXBL (power), AC10 VCC_AUX (power), AC11 VCCPGM (power), AC12 VCCPD3B4A (power), AC16 VCC_AUX (power), AC17 VCCPD3B4A (power), AC20 VCCPD3B4A (power), AC25 VREFB5AN0 (power), AD6 VCCE_GXBL (power), AD10 VCCPD3A (power), AD15 VCCPD3B4A (power), AD22 VCC_AUX (power), AE8 VREFB3AN0 (power), AE11 VCCPD3B4A (power), AE21 VCCPD3B4A (power), AH16 VREFB4AN0 (power), AJ13 VREFB3BN0 (power), B9 VREFB8AN0 (power), B16 VREFB7AN0 (power), D24 VCCPD7A8A (power), F10 VCCPGM (power), F11 VCCPD7A8A (power), F21 VCCPD7A8A (power), F23 VCCPD7A8A (power), G11 VCC_AUX (power), G13 VCCPD7A8A (power), G16 VCCPD7A8A (power), G19 VCCPD7A8A (power), H10 VCCBAT (power), H16 VCC_AUX (power), H22 VCC_AUX (power), J5 VCCE_GXBL (power), J8 VCCA_FPLL (power), J24 VCCA_FPLL (power), K6 VCCH_GXBL (power), K23 VCCPD6A (power), L5 VCCL_GXBL (power), M6 VCCE_GXBL (power), M24 VCCPD6A (power), M26 VREFB6AN0 (power), N5 VCCE_GXBL (power), P6 VCCH_GXBL (power), P24 VCCPD6A (power), P27 VREFB5BN0 (power), R5 VCCL_GXBL (power), T6 VCCE_GXBL (power), T26 VCCPD5B (power), U5 VCCE_GXBL (power), U24 VCCPD5B (power), V6 VCCH_GXBL (power), W5 VCCL_GXBL (power), W23 VCCPD5A (power), W25 VCCPD5A (power), Y6 VCCE_GXBL (power), Y8 VCCA_FPLL (power)
part O pins: A12 GND (power), A17 GND (power), A27 GND (power), AA3 GND (power), AA4 GND (power), AA6 GND (power), AA17 GND (power), AA27 GND (power), AB1 GND (power), AB2 GND (power), AB5 GND (power), AB10 GND (power), AB20 GND (power), AB30 GND (power), AC3 GND (power), AC4 GND (power), AC6 GND (power), AC13 GND (power), AC23 GND (power), AD1 GND (power), AD2 GND (power), AD5 GND (power), AD7 GND (power), AD16 GND (power), AD26 GND (power), AE3 GND (power), AE4 GND (power), AE6 GND (power), AE9 GND (power), AE19 GND (power), AE29 GND (power), AF1 GND (power), AF2 GND (power), AF5 GND (power), AF12 GND (power), AF22 GND (power), AG3 GND (power), AG4 GND (power), AG15 GND (power), AG25 GND (power), AH1 GND (power), AH2 GND (power), AH3 GND (power), AH8 GND (power), AH18 GND (power), AH28 GND (power), AJ6 GND (power), AJ11 GND (power), AJ21 GND (power), AK2 GND (power), AK14 GND (power), AK24 GND (power), AK29 GND (power), B1 GND (power), B2 GND (power), B10 GND (power), B20 GND (power), B30 GND (power), C2 GND (power), C3 GND (power), C4 GND (power), C13 GND (power), C23 GND (power), D1 GND (power), D2 GND (power), D5 GND (power), D16 GND (power), D26 GND (power), E3 GND (power), E4 GND (power), E5 GND (power), E9 GND (power), E19 GND (power), E29 GND (power), F1 GND (power), F2 GND (power), F5 GND (power), F12 GND (power), F22 GND (power), G3 GND (power), G4 GND (power), G15 GND (power), G24 GND (power), G25 GND (power), H1 GND (power), H2 GND (power), H5 GND (power), H8 GND (power), H11 GND (power), H18 GND (power), H28 GND (power), J3 GND (power), J4 GND (power), J6 GND (power), J11 GND (power), J21 GND (power), K1 GND (power), K2 GND (power), K5 GND (power), K9 GND (power), K14 GND (power), K24 GND (power), L3 GND (power), L4 GND (power), L6 GND (power), L17 GND (power), L27 GND (power), M1 GND (power), M2 GND (power), M5 GND (power), M10 GND (power), M14 GND (power), M16 GND (power), M18 GND (power), M20 GND (power), M30 GND (power), N3 GND (power), N4 GND (power), N6 GND (power), N8 GND (power), N13 GND (power), N15 GND (power), N17 GND (power), N19 GND (power), N23 GND (power), P1 GND (power), P2 GND (power), P5 GND (power), P11 GND (power), P14 GND (power), P16 GND (power), P18 GND (power), P26 GND (power), R3 GND (power), R4 GND (power), R6 GND (power), R9 GND (power), R13 GND (power), R15 GND (power), R17 GND (power), R19 GND (power), R29 GND (power), T1 GND (power), T2 GND (power), T5 GND (power), T12 GND (power), T14 GND (power), T16 GND (power), T18 GND (power), T20 GND (power), T22 GND (power), U3 GND (power), U4 GND (power), U6 GND (power), U13 GND (power), U15 GND (power), U17 GND (power), U19 GND (power), U25 GND (power), V1 GND (power), V2 GND (power), V5 GND (power), V8 GND (power), V14 GND (power), V16 GND (power), V18 GND (power), V20 GND (power), V23 GND (power), V28 GND (power), W3 GND (power), W4 GND (power), W6 GND (power), W11 GND (power), W13 GND (power), W15 GND (power), W17 GND (power), W19 GND (power), W21 GND (power), Y1 GND (power), Y2 GND (power), Y5 GND (power), Y7 GND (power), Y14 GND (power), Y24 GND (power)
part P pins: AD8 DNU, AD14 DNU, B3 DNU, B4 DNU, C1 RREF_TL, D3 NC, D4 NC, D15 DNU, E1 NC, E2 NC, F3 NC, F4 NC, F24 DNU, G1 NC, G2 NC, H3 NC, H4 NC, J1 NC, J2 NC, K8 NC, L7 NC
part A text: BANK 3A
part B text: BANK 3B
part C text: BANK 4A
part D text: BANK 5A
part E text: BANK 5B
part F text: BANK 6A
part G text: BANK 7A
part H text: BANK 8A

## 8X_resistor_array_0402
designator R?, comment ResistorArray_0402
Manufacturer: PANASONIC ELECTRONIC COMPONENTS; Manufacturer Part Number: EXB2HV510JV; Supplier: Farnell; Supplier Part Number 1: 2060069RL
footprint EXB2HV (Chip Array, Flat, 16-Leads, Pitch 0,50mm,  Body 3,80x1,60mm,  IPC Medium Density)
pins: 1, 2, 3, 4, 5, 6, 7, 8, 9, 10, 11, 12, 13, 14, 15, 16

## 24FC64F
designator IC?
Manufacturer Part Number 1: 24FC64F-I/ST; Manufacturer: Microchip Technology; Format - Memory: EEPROMs - Serial; Speed: 400kHz, 1MHz; Interface: I²C, 2-Wire Serial; Memory Type: EEPROM; Memory Size: 64K (8K x 8); Voltage - Supply: 1.7 V ~ 5.5 V; Supplier 1: Digi-Key; Packaging: Tube; Supplier Device Package: 8-TSSOP; Operating Temperature: -40°C ~ 85°C; RoHS: RoHS Compliant; Category: Integrated Circuits (ICs); Package / Case: 8-TSSOP (0.173", 4.40mm Width); Supplier Part Number 1: 24FC64F-I/ST-ND
footprint CYP-BZX121 (BGA, 121-Balls, Body 10x10mm, Pitch 0.8mm)
pins: 1 A0, 2 A1, 3 A2, 4 VSS, 5 SDA, 6 SCL, 7 WP, 8 VCC

## 24FC512
designator IC?
Manufacturer Part Number 1: 24FC512-I/ST; Manufacturer: Microchip Technology; Speed: 400kHz, 1MHz; Memory Type: EEPROM; Memory Size: 512K (64K x 8); Voltage - Supply: 1.7 V ~ 5.5 V; Interface: I²C, 2-Wire Serial; Format - Memory: EEPROMs - Serial; Supplier 1: Digi-Key; RoHS: RoHS Compliant; Packaging: Tube; Operating Temperature: -40°C ~ 85°C; Supplier Device Package: 8-TSSOP; Category: Integrated Circuits (ICs); Package / Case: 8-TSSOP (0.173", 4.40mm Width); Supplier Part Number 1: 24FC512-I/ST-ND
footprint 24FC512 (TSOP, 8-Leads, Body 3,00x4,40mm, Pitch 0,65mm, IPC Medium Density)
pins: 1 A0, 2 A1, 3 A2, 4 VSS, 5 SDA, 6 SCL, 7 WP, 8 VCC

## AD5601BKSZ-REEL7
designator IC?
Single 8-Bit nanoDAC with SPI Interface in LFCSP and SC70, 2.7 to 5.5 V, <100 uA, -40 to +125 degC, KS-6, Pb-Free, Reel; Generic Part Number: AD5601; Manufacturer: Analog Devices; PartNumber: AD5601BKSZ-REEL7; # DAC Outputs: 1; Max V+: 5.5V; Op Pwr Diss: 550µW; Resolution (Bits): 8; Settling Time: 6µs; Single Supply: Yes; DatasheetVersion: Rev.F; PackageVersion: 072809-A; PackageReference: KS-6; PackageDescription: 6-Lead Thin Shrink Small Outline Transistor Package [SC70]; Supplier 1: Digi-Key; Supplier Part Number 1: AD5601BKSZ-REEL7TR-ND; Supplier 2: Digi-Key; Supplier Part Number 2: AD5601BKSZ-REEL7CT-ND; Supplier 3: Digi-Key; Supplier Part Number 3: AD5601BKSZ-REEL7DKR-ND; Supplier 4: Farnell; Supplier Part Number 4: 2312971; Supplier 5: Newark; Supplier Part Number 5: 59K4256; Supplier 6: Newark; Supplier Part Number 6: 67W3160; Supplier 7: Mouser; Supplier Part Number 7: 584-AD5601BKSZ-R7; Packing: Reel; RoHS: Y; Mounting Technology: Surface Mount; Code_JEDEC: MO-203-AB; ComponentLink1Description: Manufacturer URL; ComponentLink1URL: http://www.analog.com/en/index.html; ComponentLink2Description: Datasheet; ComponentLink2URL: http://www.analog.com/static/imported-files/data_sheets/AD5601_5611_5621.pdf; ComponentLink3Description: Package Specification; ComponentLink3URL: http://www.analog.com/static/imported-files/packages/PKG_PDF/SC70(KS)/KS_6.pdf; ComponentLink4Description: Product URL; ComponentLink4URL: http://www.analog.com/en/digital-to-analog-converters/da-converters/ad5601/products/product.html
footprint AD5601_SOT23-6 (SOT23, 6-Leads, Body 2x1.3mm, Pitch 0.65mm, Lead Span 2.1mm, IPC Medium Density)
pins: 1 ~{SYNC} (in) "Level-Triggered Control Input (Active Low). This is the frame synchronization signal for the input data. When S\Y\N\C\ goes low, it enables the input shift register, and data is transferred in on the falling edges of the (See Datasheet)", 2 SCLK (in) "Serial Clock Input. Data is clocked into the input shift register on the falling edge of the serial clock input. Data can be transferred at rates up to 30 MHz", 3 SDIN (in) "Serial Data Input. This device has a 16-bit shift register. Data is clocked into the register on the falling edge of the serial clock input.", 4 VDD (power) "Power Supply Input. The AD5601/AD5611/AD5621 can be operated from 2.7 V to 5.5 V. VDD should be decoupled to GND.", 5 GND (power) "Ground. Ground reference point for all circuitry on the AD5601.", 6 VOUT (hiz) "Analog Output Voltage from the DAC. The output amplifier has rail-to-rail operation."

## AD8045ACPZ-R2
designator IC?
Single Channel Ultra Low Distortion  Operational Amplifier, 1 GHz BW, 1.35 KV/us SR, Industrial, 8-pin QFN (CP-8-2), Reel; Generic Part Number: AD8045; Manufacturer: Analog Devices; Amplifiers Per Package: 1; Input Bias Current: 2uA; Input Offset Voltage: 200uV; Iq/Amp: 19mA; Small Signal Bandwidth: 1GHz; V Span Max: 12V; V Span Min: 3.3V; DatasheetVersion: Rev. A; PackageVersion: 061507-B; PackageReference: CP-8-2; PackageDescription: 8-Pin Lead Frame Chip Scale Package, Body 3 x 3 mm, Pitch 0.5 mm; Supplier 1: Farnell; Supplier Part Number 1: 1078299; Supplier 2: Farnell; Supplier Part Number 2: 1078299RL; Supplier 3: Newark; Supplier Part Number 3: 59K6288; Slew Rate: 1.35KV/us; Mounting Technology: Surface Mount; PartNumber: AD8045ACPZ-R2; ComponentLink1Description: Manufacturer URL; ComponentLink1URL: http://www.analog.com/en/index.html; ComponentLink2Description: Datasheet; ComponentLink2URL: http://www.analog.com/static/imported-files/data_sheets/AD8045.pdf; ComponentLink3Description: Package Specification; ComponentLink3URL: http://www.analog.com/static/imported-files/packages/56953322593982CP_8_2.pdf
footprint AD8045ACPZ-R2 (QFN, 8-Leads, Body 3x3mm, Pitch 0.5mm, Thermal Pad 1.45X1.74mm, IPC High Density)
pins: 1 NC "No Connect", 2 FEEDBACK (out) "Feedback Pin", 3 -IN (in) "Inverting Input", 4 +IN (in) "Noninverting Input", 5 -VS (power) "Negative Supply", 6 NC "No Connect", 7 OUT (out) "Output", 8 +VS (power) "Positive Supply", 9 EP (power) "Must Be Connected to -VS or Electrically Isolated"

## ADCS7476AIMF
designator IC?
Manufacturer Part Number: ADCS7476AIMF/NOPB; Manufacturer: Texas Instruments; Architecture: SAR; Voltage - Supply, Analog: 2.7 V ~ 5.25 V; Number of Inputs: 1; Number of Bits: 12; Supplier 1: Digi-Key; Category: Integrated Circuits (ICs); Package / Case: SOT-23-6; Voltage - Supply, Digital: 2.7 V ~ 5.25 V; Number of A/D Converters: 1; Supplier Part Number 1: ADCS7476AIMF/NOPBDKR-ND
footprint SOT23-6
pins: 1 VDD, 2 GND, 3 VIN, 4 SCLK, 5 SDATA, 6 ~{CS}

## ADF4002
designator IC?
Manufacturer: Analog Devices Inc; Manufacturer Part Number 1: ADF4002BCPZ-RL7; Ratio - Input:Output: 2:1; Differential - Input:Output: Yes/No; Input: CMOS, TTL; Voltage - Supply: 2.7 V ~ 3.3 V; Supplier 1: Digi-Key; Supplier: Digi-Key; Category: Integrated Circuits (ICs); Type: Clock/Frequency Synthesizer (RF), Phase Detector; Operating Temperature: -40°C ~ 85°C; Mounting Type: Surface Mount; Package / Case: 20-VFQFN Exposed Pad, CSP; Supplier Part Number 1: ADF4002BCPZ-RL7CT-ND
footprint ADF4002
pins: 1 CPGND, 2 AGND, 3 AGND, 4 RFinB, 5 RFinA, 6 AVdd, 7 AVdd, 8 RFin, 9 DGND, 10 DGND, 11 CE, 12 CLK, 13 DATA, 14 LE, 15 MUXOUT, 16 DVdd, 17 DVdd, 18 Vp, 19 Rset, 20 CP, 21 AGND

## ADG714
designator IC?
Manufacturer Part Number: ADG715BRUZ; Manufacturer: ANALOG DEVICES; No. of Pins: 24; Analog Switch Case: TSSOP; Analog Switch Type: SPST; Supply Voltage Range: 2.7V to 5.5; On State Resistance Max: 4.5; No. of Channels: 8; Supplier 1: Newark; Operating Temperature Min: -40; RoHS: YES; Supplier Part Number 1: 19M0686
footprint ADG714 (TSOP, 24-Leads, Body 7,80x4,40mm, Pitch 0,65mm, IPC Medium Density)
pins: 1 SCLK, 2 VDD, 3 DIN, 4 GND, 5 S1, 6 D1, 7 S2, 8 D2, 9 S3, 10 D3, 11 S4, 12 D4, 13 D5, 14 S5, 15 D6, 16 S6, 17 D7, 18 S7, 19 D8, 20 S8, 21 VSS, 22 DOUT, 23 ~{RESE}T, 24 ~{SYNC}

## ADG715
designator IC?
Manufacturer: Analog Devices Inc; Manufacturer Part Number 1: ADG715BRUZ; Current - Supply: 10µA; On-State Resistance: 4.5 Ohm; Voltage Supply Source: Single, Dual Supply; Function: Switch; Voltage - Supply, Single/Dual (±): 2.7 V ~ 5.5 V, ±2.5V; Circuit: 8 x SPST - NO; Supplier 1: Digi-Key; RoHS: RoHS Compliant; Operating Temperature: -40°C ~ 85°C; Package / Case: 24-TSSOP (0.173", 4.40mm Width); Category: Integrated Circuits (ICs); Supplier Device Package: 24-TSSOP; Packaging: Tube; Mounting Type: Surface Mount; Supplier Part Number 1: ADG715BRUZ-ND
footprint ADG714 (TSOP, 24-Leads, Body 7,80x4,40mm, Pitch 0,65mm, IPC Medium Density)
pins: 1 SCL, 2 VDD, 3 SDA, 4 GND, 5 S1, 6 D1, 7 S2, 8 D2, 9 S3, 10 D3, 11 S4, 12 D4, 13 D5, 14 S5, 15 D6, 16 S6, 17 D7, 18 S7, 19 D8, 20 S8, 21 VSS, 22 A1, 23 ~{RESET}, 24 A0

## ADG732
designator IC?
Manufacturer: Analog Devices Inc; Manufacturer Part Number 1: ADG732BSUZ; Current - Supply: 10µA; On-State Resistance: 5.5 Ohm; Voltage - Supply, Single/Dual (±): 1.8 V ~ 5.5 V, ±2.5 V; Voltage Supply Source: Single, Dual Supply; Circuit: 1 x 32:1; Function: Multiplexer; Supplier 1: Digi-Key; Package / Case: 48-TQFP; Mounting Type: Surface Mount; Category: Integrated Circuits (ICs); Supplier Device Package: 48-TQFP (7x7); Operating Temperature: -40°C ~ 85°C; RoHS: RoHS Compliant; Packaging: Tray; Supplier Part Number 1: ADG732BSUZ-ND
pins: 1 S12, 2 S11, 3 S10, 4 S9, 5 S8, 6 S7, 7 S6, 8 S5, 9 S4, 10 S3, 11 S2, 12 S1, 13 VDD, 14 VDD, 15 A0, 16 A1, 17 A2, 18 A3, 19 A4, 20 ~{CS}, 21 ~{WR}, 22 ~{EN}, 23 GND, 24 VSS, 25 S17, 26 S18, 27 S19, 28 S20, 29 S21, 30 S22, 31 S23, 32 S24, 33 S25, 34 S26, 35 S27, 36 S28, 37 S29, 38 S30, 39 S31, 40 S32, 41 NC, 42 NC, 43 D, 44 NC, 45 S16, 46 S15, 47 S14, 48 S13
text: TQFP48

## ADL5602
designator IC?
50 MHz to 4.0 GHz RF/IF Gain Block; Manufacturer: Analog Devices Inc.; Manufacturer Part Number: ADL5602ARKZ-R7; RF Type: Cellular, CATV; P1dB: 19.3dBm (85.1mW); Test Frequency: 2GHz; Voltage - Supply: 5V; Gain: 19.5dB; Noise Figure: 3.3dB; Current - Supply: 89mA; Frequency: 50MHz ~ 4GHz; Supplier 1: Digi-Key; Packaging: Digi-Reel®; Category: RF/IF and RFID; Package / Case: TO-243AA; RoHS: RoHS Compliant; Supplier Device Package: SOT-89-3; Supplier Part Number 1: ADL5602ARKZ-R7DKR-ND
footprint SOT-89-ADI-RK-3_M (SOT89, 3-Leads, Body 4.5x2.4 mm, Pitch 1.5mm, Lead Span 4.1mm, IPC Low Density)
pins: 1 RFIN (in) "RF Input. This pin requires a dc blocking capacitor.", 2 GND (power) "Ground. Connect this pin to a low impedance ground plane.", 3 RFOUT (out) "RF Output and Supply Voltage. A dc bias is provided to this pin through an inductor that is connected to the external power supply. The RF path requires a dc blocking capacitor."